# Altium footprint library PCB - LEADED - SOT - TI SOT-583 - DRL.PcbLib: 1 footprints
Each footprint in its own frame and in the unit in brackets; x right, y up, seen from the top. Pads: shape width x height; smd on the part's side, far side on the other; paste and mask are expansions set on the pad; w line width, h text height; cw(c..) or ccw(c..) is an arc to the next point about the centre after c.
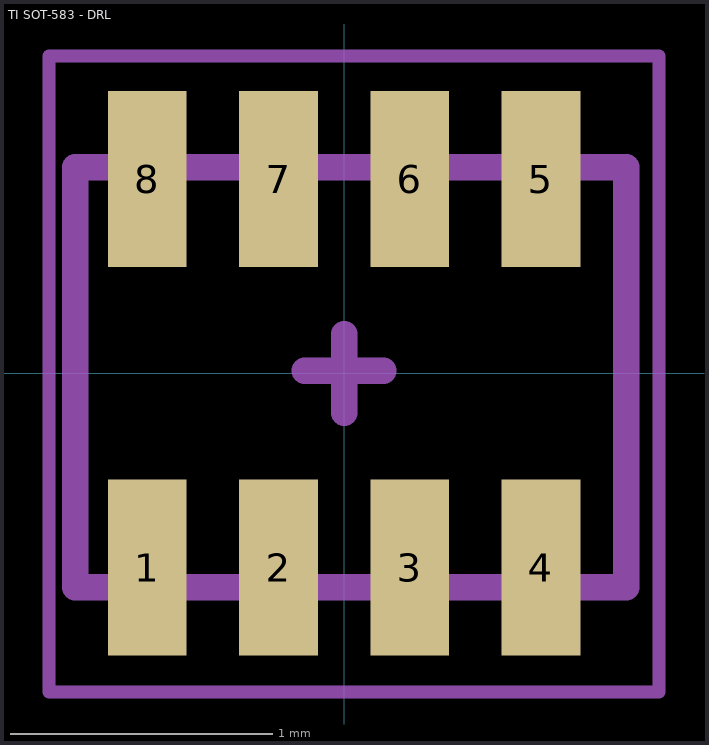
[diagram p0: the footprint, top view; thin cyan lines are the x and y axes]

## TI SOT-583 - DRL [mm] "SOT23, 8-Leads, Body 3x1.75mm, Pitch 0.65mm, TI OPA2347EA/3K"
height 1.45
pads (8):
  rect 0.3x0.67 smd mask+0.05: 1(-0.75,-0.74) 2(-0.25,-0.74) 3(0.25,-0.74) 4(0.75,-0.74) 5(0.75,0.74) 6(0.25,0.74) 7(-0.25,0.74) 8(-0.75,0.74)
Top Overlay:
  text "." at -1.246,-1.061 h0.5
Top Courtyard:
  lines w0.05: -1.125,-1.215 -1.125,1.21 1.2,1.21 1.2,-1.215 -1.125,-1.215
Top Assembly:
  lines w0.1: -1.025,-0.815 -1.025,0.785 1.075,0.785 1.075,-0.815 -1.025,-0.815
Top Component Center:
  lines w0.1: -0.15,0.01 0.15,0.01 ; 0,-0.15 0,0.15
3D body "User Library-SOT-583.step": height 0.6, standoff 0, extent -1.025,-0.815 1.075,0.785